# Altium footprint library rt10.PcbLib: 51 footprints (part 2 of 4)
Each footprint in its own frame and in the unit in brackets; x right, y up, seen from the top. Pads: shape width x height; smd on the part's side, far side on the other; paste and mask are expansions set on the pad; w line width, h text height; cw(c..) or ccw(c..) is an arc to the next point about the centre after c.
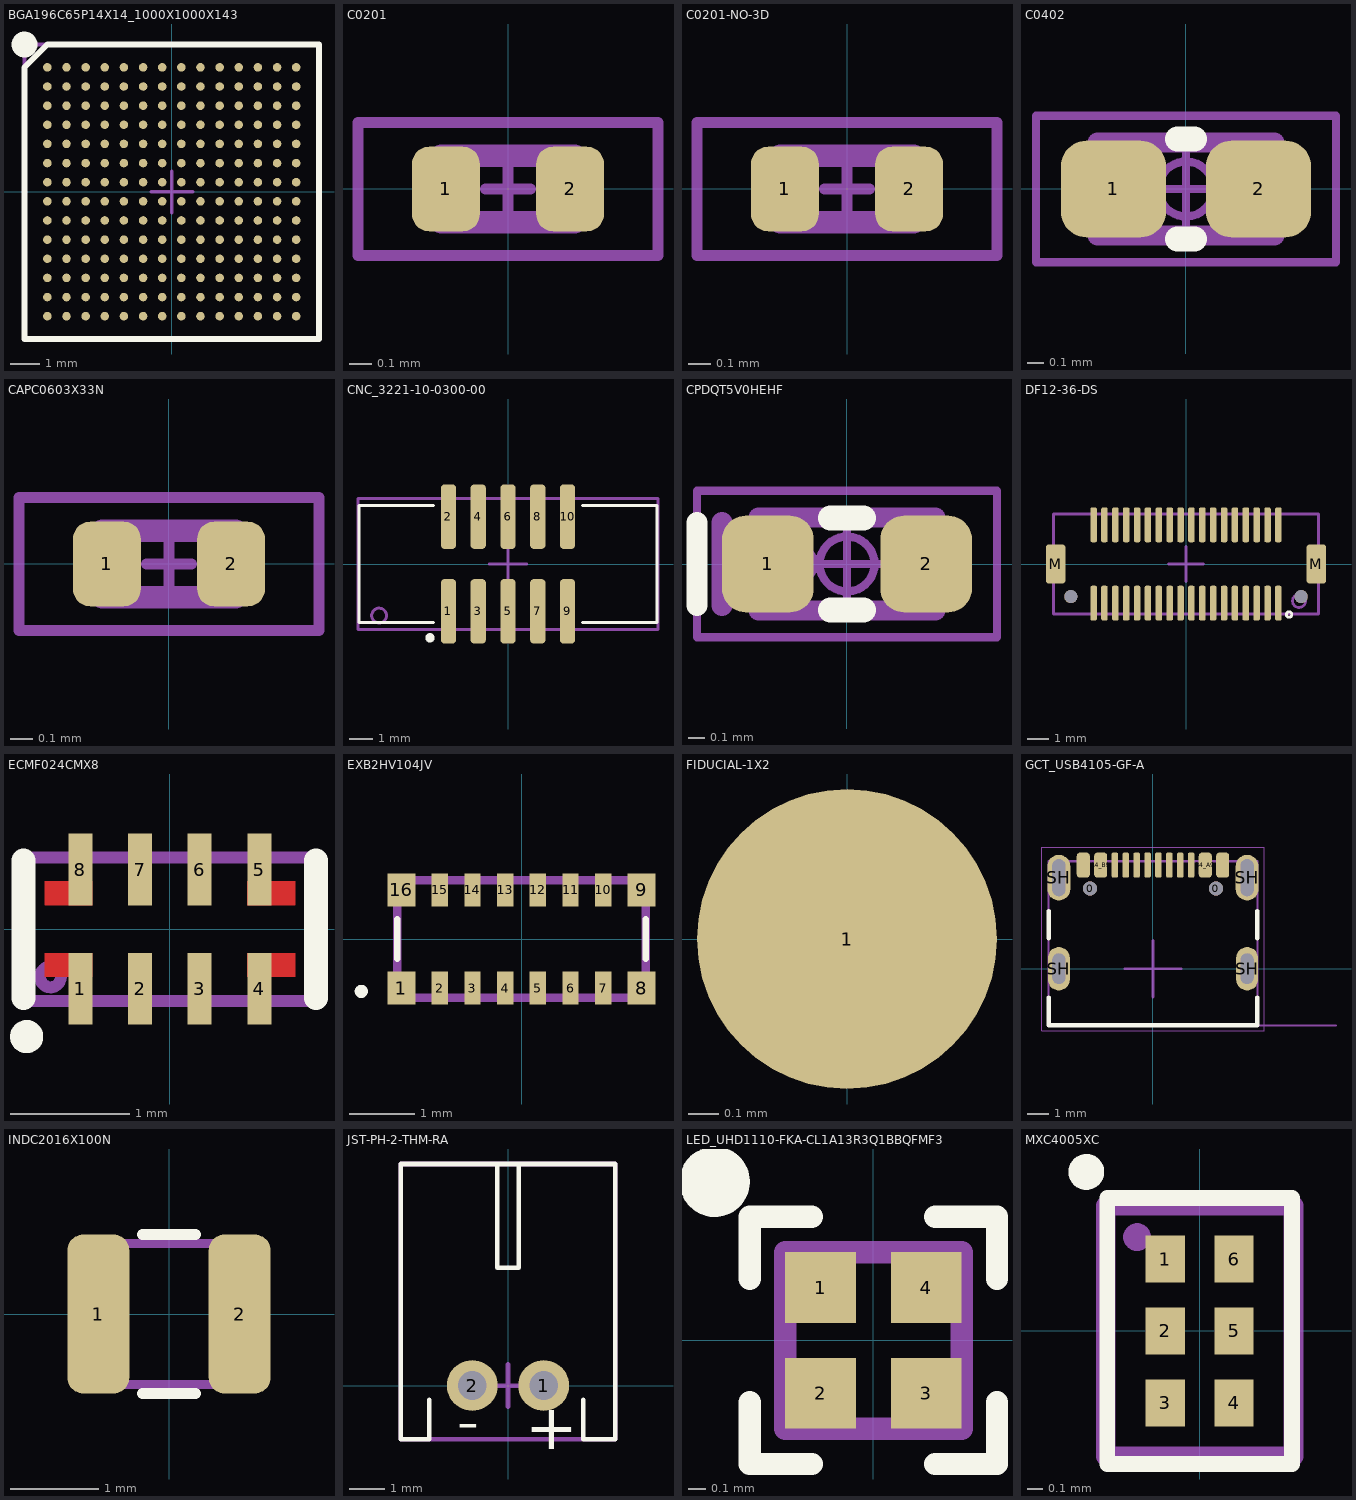
[diagram p1: the footprints below, top view; thin cyan lines are the x and y axes]

## BGA196C65P14X14_1000X1000X143 [mm] "BGA196C65P14X14_1000X1000X143"
pads (196):
  rrect100% 0.29x0.29 smd: A1(-4.225,4.225) A2(-3.575,4.225) A3(-2.925,4.225) A4(-2.275,4.225) A5(-1.625,4.225) A6(-0.975,4.225) A7(-0.325,4.225) A8(0.325,4.225) A9(0.975,4.225) A10(1.625,4.225) A11(2.275,4.225) A12(2.925,4.225) A13(3.575,4.225) A14(4.225,4.225) B1(-4.225,3.575) B2(-3.575,3.575) B3(-2.925,3.575) B4(-2.275,3.575) B5(-1.625,3.575) B6(-0.975,3.575) B7(-0.325,3.575) B8(0.325,3.575) B9(0.975,3.575) B10(1.625,3.575) B11(2.275,3.575) B12(2.925,3.575) B13(3.575,3.575) B14(4.225,3.575) C1(-4.225,2.925) C2(-3.575,2.925) C3(-2.925,2.925) C4(-2.275,2.925) C5(-1.625,2.925) C6(-0.975,2.925) C7(-0.325,2.925) C8(0.325,2.925) C9(0.975,2.925) C10(1.625,2.925) C11(2.275,2.925) C12(2.925,2.925) C13(3.575,2.925) C14(4.225,2.925) D1(-4.225,2.275) D2(-3.575,2.275) D3(-2.925,2.275) D4(-2.275,2.275) D5(-1.625,2.275) D6(-0.975,2.275) D7(-0.325,2.275) D8(0.325,2.275) D9(0.975,2.275) D10(1.625,2.275) D11(2.275,2.275) D12(2.925,2.275) D13(3.575,2.275) D14(4.225,2.275) E1(-4.225,1.625) E2(-3.575,1.625) E3(-2.925,1.625) E4(-2.275,1.625) E5(-1.625,1.625) E6(-0.975,1.625) E7(-0.325,1.625) E8(0.325,1.625) E9(0.975,1.625) E10(1.625,1.625) E11(2.275,1.625) E12(2.925,1.625) E13(3.575,1.625) E14(4.225,1.625) F1(-4.225,0.975) F2(-3.575,0.975) F3(-2.925,0.975) F4(-2.275,0.975) F5(-1.625,0.975) F6(-0.975,0.975) F7(-0.325,0.975) F8(0.325,0.975) F9(0.975,0.975) F10(1.625,0.975) F11(2.275,0.975) F12(2.925,0.975) F13(3.575,0.975) F14(4.225,0.975) G1(-4.225,0.325) G2(-3.575,0.325) G3(-2.925,0.325) G4(-2.275,0.325) G5(-1.625,0.325) G6(-0.975,0.325) G7(-0.325,0.325) G8(0.325,0.325) G9(0.975,0.325) G10(1.625,0.325) G11(2.275,0.325) G12(2.925,0.325) G13(3.575,0.325) G14(4.225,0.325) H1(-4.225,-0.325) H2(-3.575,-0.325) H3(-2.925,-0.325) H4(-2.275,-0.325) H5(-1.625,-0.325) H6(-0.975,-0.325) H7(-0.325,-0.325) H8(0.325,-0.325) H9(0.975,-0.325) H10(1.625,-0.325) H11(2.275,-0.325) H12(2.925,-0.325) H13(3.575,-0.325) H14(4.225,-0.325) J1(-4.225,-0.975) J2(-3.575,-0.975) J3(-2.925,-0.975) J4(-2.275,-0.975) J5(-1.625,-0.975) J6(-0.975,-0.975) J7(-0.325,-0.975) J8(0.325,-0.975) J9(0.975,-0.975) J10(1.625,-0.975) J11(2.275,-0.975) J12(2.925,-0.975) J13(3.575,-0.975) J14(4.225,-0.975) K1(-4.225,-1.625) K2(-3.575,-1.625) K3(-2.925,-1.625) K4(-2.275,-1.625) K5(-1.625,-1.625) K6(-0.975,-1.625) K7(-0.325,-1.625) K8(0.325,-1.625) K9(0.975,-1.625) K10(1.625,-1.625) K11(2.275,-1.625) K12(2.925,-1.625) K13(3.575,-1.625) K14(4.225,-1.625) L1(-4.225,-2.275) L2(-3.575,-2.275) L3(-2.925,-2.275) L4(-2.275,-2.275) L5(-1.625,-2.275) L6(-0.975,-2.275) L7(-0.325,-2.275) L8(0.325,-2.275) L9(0.975,-2.275) L10(1.625,-2.275) L11(2.275,-2.275) L12(2.925,-2.275) L13(3.575,-2.275) L14(4.225,-2.275) M1(-4.225,-2.925) M2(-3.575,-2.925) M3(-2.925,-2.925) M4(-2.275,-2.925) M5(-1.625,-2.925) M6(-0.975,-2.925) M7(-0.325,-2.925) M8(0.325,-2.925) M9(0.975,-2.925) M10(1.625,-2.925) M11(2.275,-2.925) M12(2.925,-2.925) M13(3.575,-2.925) M14(4.225,-2.925) N1(-4.225,-3.575) N2(-3.575,-3.575) N3(-2.925,-3.575) N4(-2.275,-3.575) N5(-1.625,-3.575) N6(-0.975,-3.575) N7(-0.325,-3.575) N8(0.325,-3.575) N9(0.975,-3.575) N10(1.625,-3.575) N11(2.275,-3.575) N12(2.925,-3.575) N13(3.575,-3.575) N14(4.225,-3.575) P1(-4.225,-4.225) P2(-3.575,-4.225) P3(-2.925,-4.225) P4(-2.275,-4.225) P5(-1.625,-4.225) P6(-0.975,-4.225) P7(-0.325,-4.225) P8(0.325,-4.225) P9(0.975,-4.225) P10(1.625,-4.225) P11(2.275,-4.225) P12(2.925,-4.225) P13(3.575,-4.225) P14(4.225,-4.225)
Top Overlay:
  circle w0.5: c-5,5 r0.188
  lines w0.2: -5,-5 5,-5 5,5 -4.225,5 -5,4.225 -5,-5
Mechanical 13:
  lines w0.127: -0.7,0 0.7,0 ; 0,-0.7 0,0.7 ; -5,-5 5,-5 5,5 -5,5 -5,-5
  text ".designator" at -3,-4.55 h0.64
3D body: height 1.5, standoff 0, extent -5,-5 5,5

## C0201 [mil] "0201 IPC-7351"
height 10.24
pads (2):
  rrect50% 12x15 smd mask+1.97: 1(-11,0) 2(11,0)
Top Solder:
  rectangle: -7,-9 8,9
Mechanical 13:
  lines w3.94: -11.81,-5.91 -11.81,5.91 11.81,5.91 11.81,-5.91 -11.81,-5.91
  text ".designator" at -7.87,-2.95 h15.75
Mechanical 15:
  lines w1.97: -3.94,0 0,0 ; 0,-3.94 0,0 ; 0,3.94 0,0 ; 3.94,0 0,0 ; -26.57,-11.81 -26.57,11.81 26.57,11.81 26.57,-11.81 -26.57,-11.81
3D body "C0201_035.step": height 13.78, standoff 0, extent -11.81,-5.88 11.81,5.92

## C0201-NO-3D [mil] "0201 IPC-7351"
height 10.24
pads (2):
  rrect50% 12x15 smd mask+1.97: 1(-11,0) 2(11,0)
Top Solder:
  rectangle: -7,-9 8,9
Mechanical 13:
  lines w3.94: -11.81,-5.91 11.81,-5.91 11.81,5.91 -11.81,5.91 -11.81,-5.91
  text ".designator" at -7.87,-2.95 h15.75
Mechanical 15:
  lines w1.97: -3.94,0 0,0 ; 0,-3.94 0,0 ; 0,3.94 0,0 ; 3.94,0 0,0 ; -26.57,-11.81 26.57,-11.81 26.57,11.81 -26.57,11.81 -26.57,-11.81

## C0402 [mm] "Chip Capacitor, 2-Leads, Body  0402 (in) 1005 (mm), IPC Medium Density"
height 0.5
pads (2):
  rrect52% 0.63x0.58 smd mask+0.05: 1(-0.435,0) 2(0.435,0)
Top Overlay:
  lines w0.15: -0.05,-0.3 0.05,-0.3 ; -0.05,0.3 0.05,0.3
Mechanical 13:
  lines w0.12: -0.53,-0.28 -0.53,0.28 0.53,0.28 0.53,-0.28 -0.53,-0.28
  text ".designator" at -0.432,-0.178 h0.3
Mechanical 15:
  circle w0.05: c0,0 r0.165
  lines w0.05: -0.22,0 0.22,0 ; 0,-0.22 0,0.22 ; -0.9,-0.44 -0.9,0.44 0.9,0.44 0.9,-0.44 -0.9,-0.44
3D body "CAP-0402.stp": height 0.5, standoff 0, extent -0.5,-0.25 0.5,0.25

## CAPC0603X33N [mil] "CAPC0603X33N"
pads (2):
  rrect50% 12x15 smd mask+1.97: 1(-10.97,-0.04) 2(11.03,-0.04)
Top Solder:
  rectangle: -6.97,-9.04 8.03,8.96
Mechanical 13:
  lines w3.94: -11.78,-5.95 11.84,-5.95 11.84,5.86 -11.78,5.86 -11.78,-5.95
  text ".designator" at -7.85,-2.99 h15.75
Mechanical 15:
  lines w1.97: -3.91,-0.04 0.03,-0.04 ; 0.03,-3.98 0.03,-0.04 ; 0.03,3.9 0.03,-0.04 ; 3.97,-0.04 0.03,-0.04 ; -26.55,-11.85 26.6,-11.85 26.6,11.77 -26.55,11.77 -26.55,-11.85
3D body "C0201_035.step": height 13.78, standoff 0, extent -11.79,-5.93 11.84,5.88

## CNC_3221-10-0300-00 [mm] "CNC_3221-10-0300-00"
pads (10):
  rrect50% 0.65x2.76 smd: 1(-2.54,-2.02) 2(-2.54,2.02) 3(-1.27,-2.02) 4(-1.27,2.02) 5(0,-2.02) 6(0,2.02) 7(1.27,-2.02) 8(1.27,2.02) 9(2.54,-2.02) 10(2.54,2.02)
Top Overlay:
  circle w0.2: c-3.327,-3.15 r0.1
  lines w0.127: -3.185,-2.5 -6.35,-2.5 -6.35,2.5 -3.185,2.5 ; 3.185,-2.5 6.35,-2.5 6.35,2.5 3.185,2.5
Mechanical 13:
  circle w0.127: c-5.5,-2.2 r0.316
  lines w0.127: -0.8,0 0,0 ; 0,-0.8 0,0 ; 0,0.8 0,0 ; 0.8,0 0,0 ; -6.4,-2.8 -6.4,2.8 6.4,2.8 6.4,-2.8 -6.4,-2.8
  text ".designator" at -2.1,-2.65 h0.64
3D body "3221-10-0300-00 3D.STP": height 5.21, standoff 0.01, extent -6.354,-2.801 6.346,2.799

## CPDQT5V0HEHF [mm] "CPDQT5V0HEHF"
pads (2):
  rrect51% 0.55x0.58 smd mask+0.05: 1(-0.475,0) 2(0.475,0)
Top Overlay:
  lines w0.127: -0.9,-0.25 -0.9,0.25
  lines w0.15: -0.1,-0.275 0.1,-0.275 ; -0.1,0.275 0.1,0.275
Mechanical 13:
  circle w0.254: c-0.3,0 r0
  lines w0.12: -0.53,-0.28 -0.53,0.28 0.53,0.28 0.53,-0.28 -0.53,-0.28
  lines w0.127: -0.75,-0.25 -0.75,0.25
  text ".designator" at -0.2,-0.2 h0.3
Mechanical 15:
  circle w0.05: c0,0 r0.165
  lines w0.05: -0.22,0 0.22,0 ; 0,-0.22 0,0.22 ; -0.9,-0.44 -0.9,0.44 0.9,0.44 0.9,-0.44 -0.9,-0.44
3D body "RES-0402.stp": height 0.34, standoff 0, extent -0.5,-0.25 0.5,0.25

## DF12-36-DS [mm] "DF12-36-DS"
pads (40):
  rrect50% 0.3x1.6 smd paste+0: 1(4.25,-1.8) 2(4.25,1.8) 3(3.75,-1.8) 4(3.75,1.8) 5(3.25,-1.8) 6(3.25,1.8) 7(2.75,-1.8) 8(2.75,1.8) 9(2.25,-1.8) 10(2.25,1.8) 11(1.75,-1.8) 12(1.75,1.8) 13(1.25,-1.8) 14(1.25,1.8) 15(0.75,-1.8) 16(0.75,1.8) 17(0.25,-1.8) 18(0.25,1.8) 19(-0.25,-1.8) 20(-0.25,1.8) 21(-0.75,-1.8) 22(-0.75,1.8) 23(-1.25,-1.8) 24(-1.25,1.8) 25(-1.75,-1.8) 26(-1.75,1.8) 27(-2.25,-1.8) 28(-2.25,1.8) 29(-2.75,-1.8) 30(-2.75,1.8) 31(-3.25,-1.8) 32(-3.25,1.8) 33(-3.75,-1.8) 34(-3.75,1.8) 35(-4.25,-1.8) 36(-4.25,1.8)
  rrect30% 0.9x1.8 smd: M(-6,0) M(6,0)
  round 0.6 hole 0.6 unplated: MH1(5.3,-1.5) MH2(-5.3,-1.5)
Top Overlay:
  circle w0.127: c4.742,-2.324 r0.127
Top Paste:
  region: -3.638,-1.206 -3.638,-2.507 -3.858,-2.507 -3.858,-1.206
  region: -4.138,2.513 -4.138,1.213 -4.358,1.213 -4.358,2.513
  region: -3.638,2.513 -3.638,1.213 -3.858,1.213 -3.858,2.513
  region: -4.138,-1.206 -4.138,-2.507 -4.358,-2.507 -4.358,-1.206
  region: -2.638,-1.206 -2.638,-2.507 -2.858,-2.507 -2.858,-1.206
  region: -2.138,-1.206 -2.138,-2.507 -2.358,-2.507 -2.358,-1.206
  region: -1.638,-1.206 -1.638,-2.507 -1.858,-2.507 -1.858,-1.206
  region: -1.138,-1.206 -1.138,-2.507 -1.358,-2.507 -1.358,-1.206
  region: -0.638,-1.206 -0.638,-2.507 -0.858,-2.507 -0.858,-1.206
  region: -0.138,-1.206 -0.138,-2.507 -0.358,-2.507 -0.358,-1.206
  region: 0.362,-1.206 0.362,-2.507 0.142,-2.507 0.142,-1.206
  region: 0.862,-1.206 0.862,-2.507 0.642,-2.507 0.642,-1.206
  region: 1.362,-1.206 1.362,-2.507 1.142,-2.507 1.142,-1.206
  region: 1.862,-1.206 1.862,-2.507 1.642,-2.507 1.642,-1.206
  region: 2.362,-1.206 2.362,-2.507 2.142,-2.507 2.142,-1.206
  region: 2.862,-1.206 2.862,-2.507 2.642,-2.507 2.642,-1.206
  region: 3.362,-1.206 3.362,-2.507 3.142,-2.507 3.142,-1.206
  region: 3.862,-1.206 3.862,-2.507 3.642,-2.507 3.642,-1.206
  region: 4.362,-1.206 4.362,-2.507 4.142,-2.507 4.142,-1.206
  region: -3.138,2.513 -3.138,1.213 -3.358,1.213 -3.358,2.513
  region: -2.638,2.513 -2.638,1.213 -2.858,1.213 -2.858,2.513
  region: -2.138,2.513 -2.138,1.213 -2.358,1.213 -2.358,2.513
  region: -1.638,2.513 -1.638,1.213 -1.858,1.213 -1.858,2.513
  region: -1.138,2.513 -1.138,1.213 -1.358,1.213 -1.358,2.513
  region: -0.638,2.513 -0.638,1.213 -0.858,1.213 -0.858,2.513
  region: -0.148,2.513 -0.148,1.213 -0.368,1.213 -0.368,2.513
  region: 0.362,2.513 0.362,1.213 0.142,1.213 0.142,2.513
  region: 0.862,2.513 0.862,1.213 0.642,1.213 0.642,2.513
  region: 1.362,2.513 1.362,1.213 1.142,1.213 1.142,2.513
  region: 1.852,2.513 1.852,1.213 1.632,1.213 1.632,2.513
  region: 2.362,2.513 2.362,1.213 2.142,1.213 2.142,2.513
  region: 2.862,2.513 2.862,1.213 2.642,1.213 2.642,2.513
  region: 3.362,2.513 3.362,1.213 3.142,1.213 3.142,2.513
  region: 3.862,2.513 3.862,1.213 3.642,1.213 3.642,2.513
  region: 4.362,2.513 4.362,1.213 4.142,1.213 4.142,2.513
  region: -3.138,-1.206 -3.138,-2.507 -3.358,-2.507 -3.358,-1.206
Mechanical 13:
  circle w0.127: c5.2,-1.7 r0.3
  lines w0.127: -0.8,0 0,0 ; 0,-0.8 0,0 ; 0,0.8 0,0 ; 0.8,0 0,0 ; -6.1,-2.3 6.1,-2.3 6.1,2.3 -6.1,2.3 -6.1,-2.3
  text ".designator" at -5.5,-2.25 h0.64
3D body "DF12NB-36DS-0.5V.stp": height 2.7, standoff 0, extent -6.05,-2.3 6.05,2.3

## ECMF024CMX8 [mm] "ECMF024CMX8"
pads (8):
  rect 0.2x0.6 smd: 1(-0.75,-0.5) 2(-0.25,-0.5) 3(0.25,-0.5) 4(0.75,-0.5) 5(0.75,0.5) 6(0.25,0.5) 7(-0.25,0.5) 8(-0.75,0.5)
Top Layer:
  region: 0.65,0.2 0.65,0.4 1.05,0.4 1.05,0.2
  region: 0.65,-0.2 0.65,-0.4 1.05,-0.4 1.05,-0.2
  region: -0.65,-0.2 -0.65,-0.4 -1.05,-0.4 -1.05,-0.2
  region: -0.65,0.2 -0.65,0.4 -1.05,0.4 -1.05,0.2
Top Overlay:
  circle w0.15: c-1.2,-0.9 r0.064
  lines w0.2: -1.225,-0.575 -1.225,0.575 ; 1.225,-0.575 1.225,0.575
Mechanical 13:
  circle w0.1: c-1,-0.4 r0.087
  lines w0.1: -1.25,-0.6 -1.25,0.6 1.25,0.6 1.25,-0.6 -1.25,-0.6
  text ".designator" at -0.85,-1.373 h0.76
3D body: height 0.5, standoff 0, extent -1.25,-0.6 1.25,0.6

## EXB2HV104JV [mm] "EXB2HV104JV"
pads (16):
  rect 0.425x0.5 smd: 1(-1.837,-0.75) 8(1.837,-0.75) 9(1.837,0.75) 16(-1.837,0.75)
  rect 0.25x0.5 smd: 2(-1.25,-0.75) 3(-0.75,-0.75) 4(-0.25,-0.75) 5(0.25,-0.75) 6(0.75,-0.75) 7(1.25,-0.75) 10(1.25,0.75) 11(0.75,0.75) 12(0.25,0.75) 13(-0.25,0.75) 14(-0.75,0.75) 15(-1.25,0.75)
Top Overlay:
  lines w0.1: -1.9,-0.3 -1.9,0.3 ; 1.9,-0.3 1.9,0.3 ; -2.5,-0.8 ccw(c-2.45,-0.8) -2.4,-0.8 ccw(c-2.45,-0.8) -2.5,-0.8
Mechanical 13:
  lines w0.127: -1.9,-0.9 -1.9,0.9 1.9,0.9 1.9,-0.9 -1.9,-0.9
  text ".designator" at -1.6,-0.95 h0.64
3D body: height 0.7, standoff 0, extent -1.9,-0.9 1.9,0.9

## FIDUCIAL-1X2 [mm] "FIDUCIAL-1X2"
pads (1):
  rrect100% 1x1 smd paste+0: 1(0,0)

## GCT_USB4105-GF-A [mm] "GCT_USB4105-GF-A"
pads (18):
  round 0.65 hole 0.65 unplated: 0(-2.89,3.68) 0(2.89,3.68)
  rrect50% 0.6x1.15 smd mask+0: A1_B12(-3.2,4.755) A4_B9(-2.4,4.755) B1_A12(3.2,4.755) B4_A9(2.4,4.755)
  rrect50% 0.3x1.15 smd mask+0: A5(-1.25,4.755) A6(-0.25,4.755) A7(0.25,4.755) A8(1.25,4.755) B5(1.75,4.755) B6(0.75,4.755) B7(-0.75,4.755) B8(-1.75,4.755)
  oval 1x2 hole 0.6 slot 1.4 at 90 deg: SH(-4.32,0) SH(4.32,0)
  oval 1.05x2.1 hole 0.6 slot 1.7 at 90 deg: SH(-4.32,4.18) SH(4.32,4.18)
Top Overlay:
  lines w0.2: -4.79,-1.32 -4.79,-2.6 4.79,-2.6 4.79,-1.32 ; -4.79,1.4 -4.79,2.65 ; 4.79,1.4 4.79,2.65
Mechanical 13:
  lines w0.1: 4.8,-2.6 8.4,-2.6 ; -4.79,-2.6 -4.79,4.93 4.79,4.93 4.79,-2.6 -4.79,-2.6
  lines w0.127: -1.3,0 0,0 ; 0,-1.3 0,0 ; 0,1.3 0,0 ; 1.3,0 0,0
  text ".designator" at -2,1.85 h0.64
  text "PCB EDGE" at 5.4,-2.5 h0.41
Mechanical 15:
  lines w0.05: -5.1,-2.85 5.1,-2.85 5.1,5.58 -5.1,5.58 -5.1,-2.85
3D body "step_temp.STEP": height 3.31, standoff -0.85, extent -4.79,-2.6 4.79,5.11

## INDC2016X100N [mm] "INDC2016X100N"
pads (2):
  rrect50% 0.7x1.8 smd: 1(-0.8,0) 2(0.8,0)
Top Overlay:
  lines w0.127: -0.3,-0.9 0.3,-0.9 ; -0.3,0.9 0.3,0.9
Mechanical 13:
  lines w0.1: -1,-0.8 1,-0.8 1,0.8 -1,0.8 -1,-0.8
  text ".designator" at -1,-0.95 h0.64
3D body: height 1, standoff 0, extent -1,-0.8 1,0.8

## JST-PH-2-THM-RA [mil] "JST-PH-2-THM-RA"
pads (2):
  round 56 hole 31.5: 1(39.37,0) 2(-39.37,0)
Top Overlay:
  lines w5: -86.61,-15.75 -86.61,-59.06 -118.11,-59.06 -118.11,244.09 118.11,244.09 118.11,-59.06 86.61,-59.06 82.68,-59.06 82.68,-15.75 ; -11.81,244.09 -11.81,129.92 11.81,129.92 11.81,244.09
  text "+" at 19.13,-86.46 h86.8
  text "-" at -56.26,-78.59 h86.8
Mechanical 13:
  lines w5: -23.62,0 0,0 ; 0,-23.62 0,0 ; 0,23.62 0,0 ; 23.62,0 0,0 ; -118.11,-59.06 -118.11,244.09 118.11,244.09 118.11,-59.06 -118.11,-59.06
  text ".designator" at -90.55,49.2 h25
3D body "c-440055-2-b3-3d.stp": height 195.38, standoff -133.36, extent -118.11,-59.06 118.11,244.09

## LED_UHD1110-FKA-CL1A13R3Q1BBQFMF3 [mm] "LED_UHD1110-FKA-CL1A13R3Q1BBQFMF3"
pads (4):
  rect 0.4x0.4 smd: 1(-0.3,0.3) 2(-0.3,-0.3) 3(0.3,-0.3) 4(0.3,0.3)
Top Overlay:
  circle w0.2: c-0.9,0.9 r0.1
  lines w0.127: -0.7,-0.35 -0.7,-0.7 -0.35,-0.7 ; -0.7,0.35 -0.7,0.7 -0.35,0.7 ; 0.35,-0.7 0.7,-0.7 0.7,-0.35 ; 0.35,0.7 0.7,0.7 0.7,0.35
Mechanical 13:
  circle w0.127: c-0.3,0.3 r0.06
  lines w0.127: -0.5,-0.5 0.5,-0.5 0.5,0.5 -0.5,0.5 -0.5,-0.5
  text ".designator" at -0.7,0.35 h0.64
3D body: height 0.62, standoff 0, extent 0.2,-0.2 0.357,0.2
3D body: height 0.62, standoff 0, extent -0.35,-0.3 -0.161,-0.05
3D body: height 0.62, standoff 0, extent -0.34,0.049 -0.155,0.3
3D body: height 0.6, standoff 0, extent -0.5,-0.5 0.5,0.5

## MXC4005XC [mm] "MXC4005XC"
pads (6):
  rect 0.25x0.3 smd: 1(-0.22,0.46) 2(-0.22,0) 3(-0.22,-0.46) 4(0.22,-0.46) 5(0.22,0) 6(0.22,0.46)
Top Overlay:
  circle w0.127: c-0.724,1.016 r0.051
  lines w0.1: -0.59,-0.85 0.59,-0.85 0.59,0.85 -0.59,0.85 -0.59,-0.85
Mechanical 13:
  circle w0.127: c-0.4,0.6 r0.025
  lines w0.127: -0.6,-0.8 -0.6,0.8 0.6,0.8 0.6,-0.8 -0.6,-0.8
  text ".designator" at 0.75,-0.7 h0.64
3D body: height 0.62, standoff 0, extent -0.6,-0.8 0.6,0.8